# Altium schematic symbol library MBRD835.Schlib: 1 symbol
Pins are listed as number, name and electrical type; pins without a type are passive.

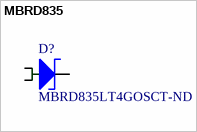
[diagram p0: symbol MBRD835]

## MBRD835
designator D?, comment MBRD835LT4GOSCT-ND
BUY_LINK: http://www.digikey.com/product-detail/en/MBRD835LT4G/MBRD835LT4GOSCT-ND/917990; PRICE: 0.72000; ID: MBRD835LT4GOSCT-ND; PDF: http://www.onsemi.com/pub_link/Collateral/MBRD835L-D.PDF
footprint TO252
pins: 1, 2, 3